# EAGLE library part ATMEGA32U4 (library DaneGardner)
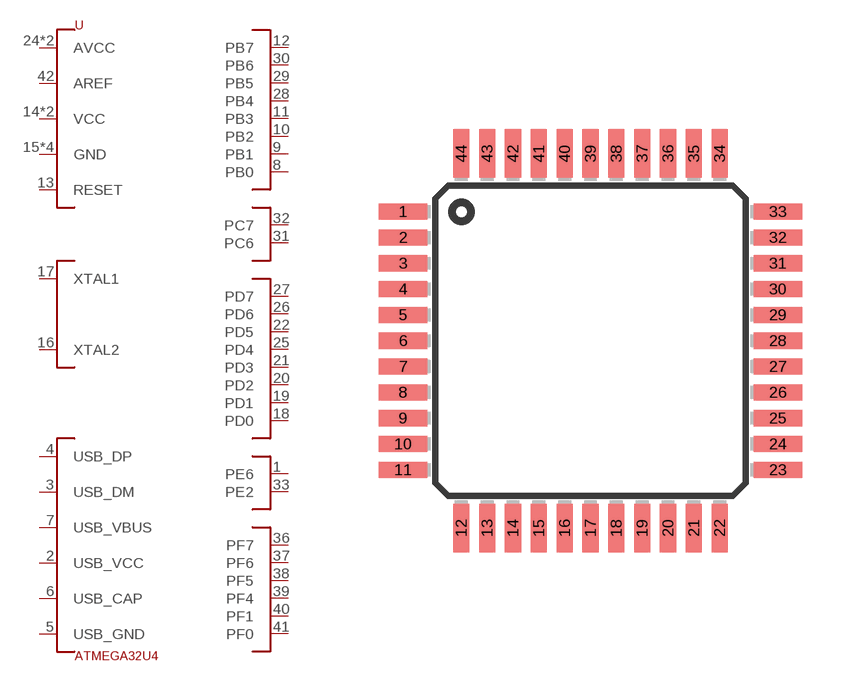
[diagram p3: symbol with the pads of TQFP44; footprint TQFP44]

Designator prefix -

## ATMEGA32U4  [TQFP44]
1  PE6
2  USB_VCC
3  USB_DM
4  USB_DP
5  USB_GND
6  USB_CAP
7  USB_VBUS
8  PB0
9  PB1
10  PB2
11  PB3
12  PB7
13  RESET
14  VCC
15  GND
16  XTAL2
17  XTAL1
18  PD0
19  PD1
20  PD2
21  PD3
22  PD5
23  GND
24  AVCC
25  PD4
26  PD6
27  PD7
28  PB4
29  PB5
30  PB6
31  PC6
32  PC7
33  PE2
34  VCC
35  GND
36  PF7
37  PF6
38  PF5
39  PF4
40  PF1
41  PF0
42  AREF
43  GND
44  AVCC

## Footprint TQFP44 (pad centres in mm)
44-lead Thin Quad Flat Package
smd 1.5 x 0.5: 1 -5.8,4; 2 -5.8,3.2; 3 -5.8,2.4; 4 -5.8,1.6; 5 -5.8,0.8; 6 -5.8,0; 7 -5.8,-0.8; 8 -5.8,-1.6; 9 -5.8,-2.4; 10 -5.8,-3.2; 11 -5.8,-4; 23 5.8,-4; 24 5.8,-3.2; 25 5.8,-2.4; 26 5.8,-1.6; 27 5.8,-0.8; 28 5.8,0; 29 5.8,0.8; 30 5.8,1.6; 31 5.8,2.4; 32 5.8,3.2; 33 5.8,4
smd 0.5 x 1.5: 12 -4,-5.8; 13 -3.2,-5.8; 14 -2.4,-5.8; 15 -1.6,-5.8; 16 -0.8,-5.8; 17 0,-5.8; 18 0.8,-5.8; 19 1.6,-5.8; 20 2.4,-5.8; 21 3.2,-5.8; 22 4,-5.8; 34 4,5.8; 35 3.2,5.8; 36 2.4,5.8; 37 1.6,5.8; 38 0.8,5.8; 39 0,5.8; 40 -0.8,5.8; 41 -1.6,5.8; 42 -2.4,5.8; 43 -3.2,5.8; 44 -4,5.8